# EAGLE library part MXR9500 (library acceleration_inclination)
Low Cost ±1.5 g Tri Axis Accelerometer with Ratiometric Outputs Source: http://www.memsic.com/data/products/MXR9500G&M/MXR9500G&M.pdf
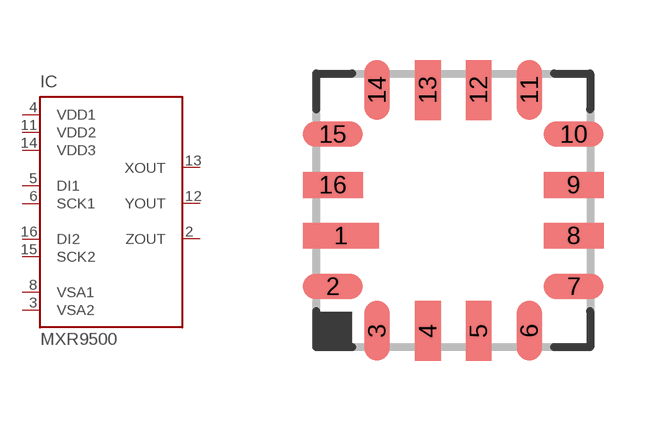
[diagram p0: symbol with the pads of LCC16; footprint LCC16]

Designator prefix IC

## MXR9500GZ, MXR9500MZ  [LCC16]
2  ZOUT  out
3  VSA2  out
4  VDD1  in
5  DI1  in
6  SCK1  in
8  VSA1  out
11  VDD2  in
12  YOUT  out
13  XOUT  out
14  VDD3  in
15  SCK2  in
16  DI2  in

## Footprint LCC16 (pad centres in mm)
LCC16 Package Source: http://www.memsic.com/data/products/MXR9500G&M/MXR9500G&M.pdf
smd 1.9 x 0.64: 1 -2.815,-0.635
smd 1.5 x 0.64: 2 -3.015,-1.905; 7 3.015,-1.905; 8 3.015,-0.635; 9 3.015,0.635; 10 3.015,1.905; 15 -3.015,1.905; 16 -3.015,0.635
smd 0.64 x 1.5: 3 -1.905,-3.015; 4 -0.635,-3.015; 5 0.635,-3.015; 6 1.905,-3.015; 11 1.905,3.015; 12 0.635,3.015; 13 -0.635,3.015; 14 -1.905,3.015